# Altium footprint library MOSFET.PcbLib: 10 footprints
Each footprint in its own frame and in the unit in brackets; x right, y up, seen from the top. Pads: shape width x height; smd on the part's side, far side on the other; paste and mask are expansions set on the pad; w line width, h text height; cw(c..) or ccw(c..) is an arc to the next point about the centre after c.
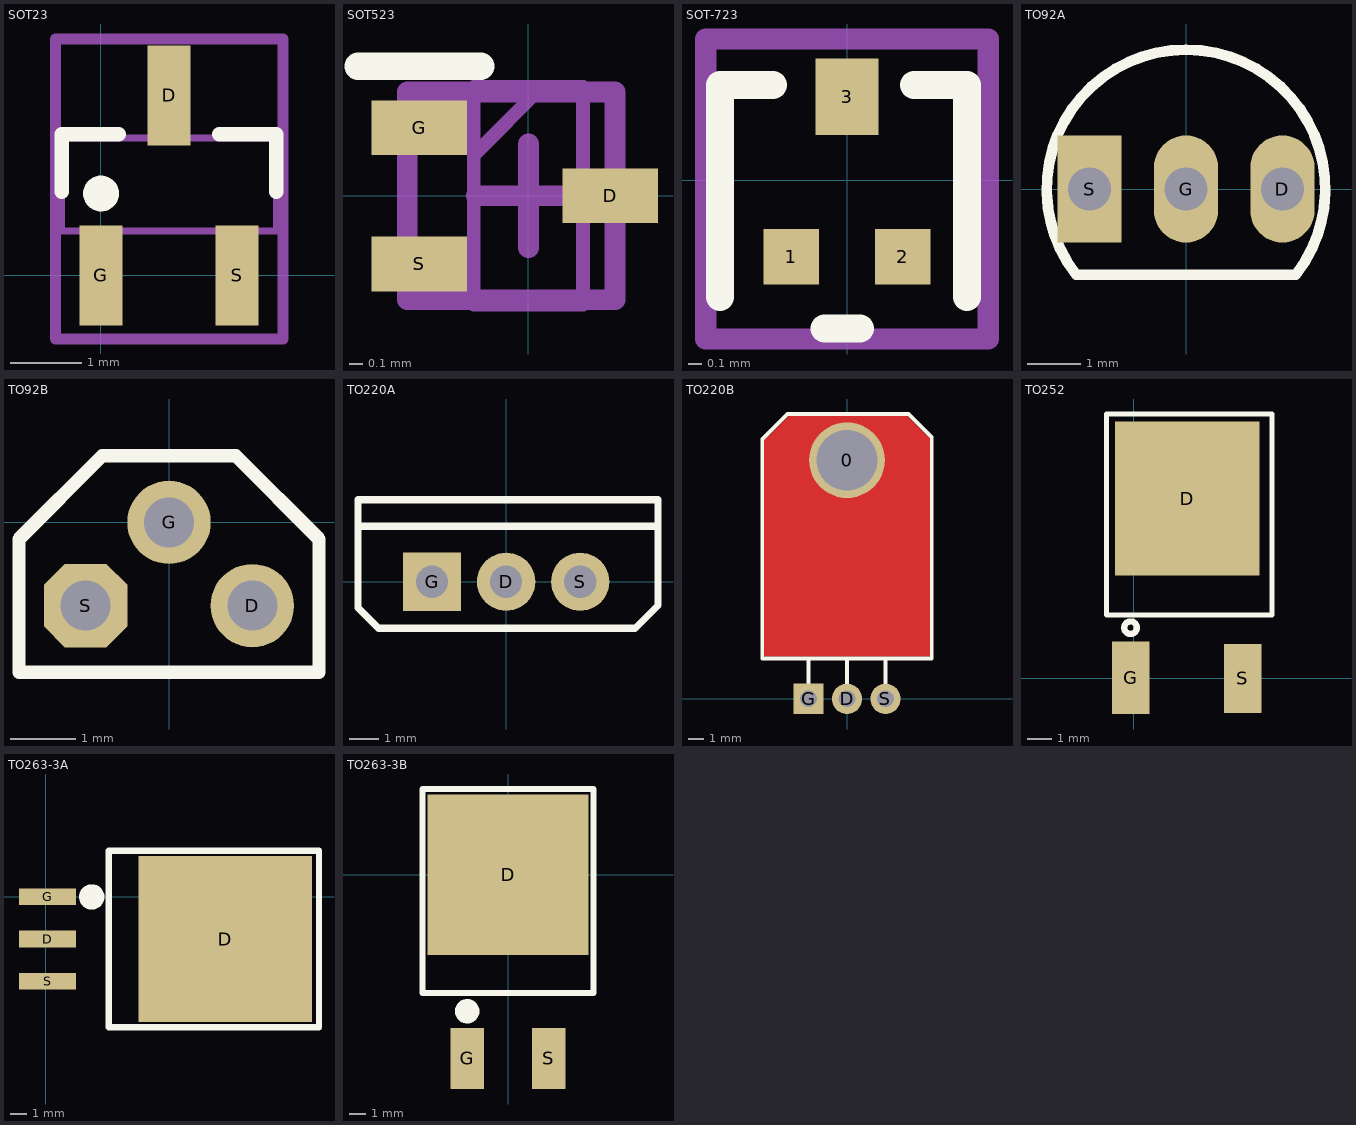
[diagram p0: the footprints below, top view; thin cyan lines are the x and y axes]

## SOT23 [mm]
pads (3):
  rect 0.6x1.4 smd: D(0.95,2.514) G(0,0) S(1.9,0)
Top Overlay:
  circle w0.25: c0,1.143 r0.125
  lines w0.2: -0.55,1.17 -0.55,1.97 0.25,1.97 ; 1.65,1.97 2.45,1.97 2.45,1.17
Body Extra:
  lines w0.1: -0.55,0.62 2.45,0.62 2.45,1.92 -0.55,1.92 -0.55,0.62
Top Designator (Mech15):
  lines w0.152: -0.635,-0.889 2.54,-0.889 2.54,3.302 -0.635,3.302 -0.635,-0.889
  text "'.Designator'" at -1.905,1.143 h1.02
3D body "SOT23-3.STEP": height 1.05, standoff 0, extent -0.559,0.222 2.441,2.622

## SOT523 [mm]
pads (3):
  rect 0.7x0.4 smd: D(0.6,0) G(-0.8,0.5) S(-0.8,-0.5)
Top Overlay:
  lines w0.2: -1.25,0.95 -0.35,0.95
Top Component Outline:
  lines w0.152: -0.889,-0.762 0.635,-0.762 0.635,0.762 -0.889,0.762 -0.889,-0.762
Top Component Center:
  lines w0.152: -0.381,0 0.381,0 ; 0,-0.381 0,0.381
Top Value:
  text "'.Comment'" at -2.193,-0.295 h1.02
Top Designator:
  text "'.Designator'" at -2.907,-0.213 h1.02
Body Extra:
  lines w0.1: -0.4,0.3 0.1,0.8 ; -0.4,-0.8 0.4,-0.8 0.4,0.8 -0.4,0.8 -0.4,-0.8
3D body "DMG1012T-7.stp": height 0.8, standoff 0, extent -0.927,-0.8 0.673,0.8

## SOT-723 [mm]
pads (3):
  rect 0.4x0.4 smd: 1(-0.4,-0.55) 2(0.4,-0.55)
  rect 0.45x0.55 smd: 3(0,0.6)
Top Overlay:
  lines w0.203: -0.914,-0.838 -0.914,0.686 -0.533,0.686 ; -0.162,-1.067 0.092,-1.067 ; 0.483,0.686 0.864,0.686 0.864,-0.838
Top Designator (Mech15):
  lines w0.152: -1.016,-1.143 -1.016,1.016 1.016,1.016 1.016,-1.143 -1.016,-1.143
  text "'.Designator'" at -2.921,-0.381 h0.76
3D body "User Library-SOT-723.step": height 0.45, standoff -0.01, extent -0.635,-0.481 0.615,0.569

## TO92A [mm] "92晶体管"
height 5.33
pads (3):
  oval 1.2x2 hole 0.8: D(1.8,0) G(0,0)
  rect 1.2x2 hole 0.8: S(-1.8,0)
Top Overlay:
  lines w0.2: -2.049,-1.601 cw(c0,0) 2.049,-1.601 ; -1.99,-1.6 1.99,-1.6
3D body "5.STEP": height 6.58, standoff -4.02, extent -2.3,-1.314 2.3,2.286

## TO92B [mil] "92晶体管"
pads (3):
  round 50 hole 30: D(50,-50) G(0,0)
  oct 50x50 hole 30: S(-50,-50)
Top Overlay:
  lines w8: -90,-90 -90,-10 -40,40 40,40 90,-10 90,-90 -90,-90
3D body "TO92.STEP": height 283.41, standoff -133.91, extent -90.55,-100 90.55,41.54

## TO220A [mm]
pads (3):
  round 2 hole 1.1: D(0,0) S(2.54,0)
  rect 2x2 hole 1.1: G(-2.54,0)
Top Overlay:
  lines w0.254: -4.928,1.905 5.131,1.905 ; -5.08,-0.889 -4.369,-1.6 4.42,-1.6 5.207,-0.813 5.207,2.819 -5.08,2.819 -5.08,-0.889
3D body "4.STEP": height 18.5, standoff -4, extent -5.08,-1.453 5.22,2.977

## TO220B [mm]
pads (4):
  round 5 hole 4: 0(0,15.748)
  round 2 hole 1.1: D(0,0) S(2.54,0)
  rect 2x2 hole 1.1: G(-2.54,0)
Top Layer:
  rectangle: -5.334,2.921 5.334,17.018
  rectangle: -3.81,16.891 4.064,18.542
  rectangle: 4.064,16.891 4.699,17.78
  rectangle: -4.572,16.891 -3.81,17.653
  rectangle: -4.318,17.653 -3.81,18.034
  rectangle: -4.826,17.018 -4.572,17.526
  rectangle: 4.445,16.891 5.143,17.335
  rectangle: 3.81,17.526 4.445,18.034
  lines w0.254: -5.207,16.891 -3.81,18.288 ; -4.826,17.018 -3.81,18.034 ; 3.937,18.288 4.826,17.272 5.334,17.018 4.699,17.526 ; -5.334,2.921 -5.334,16.637 -5.334,17.018 -4.826,17.526 -3.81,18.542 3.429,18.542 3.937,18.542 4.953,17.526 5.334,17.145 5.334,3.429 5.334,2.921 -5.08,2.921 -5.334,2.921
Top Overlay:
  lines w0.254: -2.54,0.737 -2.54,2.667 ; 0,0.711 0,2.667 ; 2.54,0.686 2.54,2.667 ; -5.588,2.667 5.588,2.667 5.588,17.272 4.064,18.796 -3.937,18.796 -5.588,17.145 -5.588,2.667
3D body "14.STEP": height 4.43, standoff -3, extent -5.15,-0.254 5.15,18.496

## TO252 [mil] "252晶体管"
pads (3):
  rect 230x245 smd: D(85,285.35)
  rect 60x115 smd: G(-4.55,0.23)
  rect 60x110 smd: S(173.45,-0.77)
Top Overlay:
  circle w10: c-5,80 r10
  lines w7.87: -42.95,100 -42.95,147.56 -42.95,420 220,420 220,147.56 220,100 -42.95,100
3D body "2.STEP": height 90.55, standoff 0, extent -40.91,4.58 215,375.42

## TO263-3A [mm]
height 4.5
pads (4):
  rect 3.45x1 smd: D(0.125,-2.54) G(0.125,0) S(0.125,-5.08)
  rect 10.5x10 smd: D(10.85,-2.54)
Top Overlay:
  circle w0.762: c2.794,0 r0.381
  lines w0.381: 3.81,-7.874 3.81,2.794 5.842,2.794 16.51,2.794 16.51,-7.874 6.096,-7.874 3.81,-7.874
3D body "TO263-3.STEP": height 4.7, standoff 0, extent 0.66,-7.493 15.088,2.507

## TO263-3B [mm]
pads (3):
  rect 10x10 smd: D(0,0)
  rect 2.1x3.8 smd: G(-2.54,-11.45) S(2.54,-11.45)
Top Overlay:
  circle w0.762: c-2.54,-8.509 r0.381
  lines w0.381: -5.334,-7.366 -5.334,-5.588 -5.334,5.334 5.334,5.334 5.334,-5.588 5.334,-7.366 -5.334,-7.366
3D body "1.STEP": height 4.5, standoff 0, extent -4.92,-11.049 5.08,3.881